# Altium integrated library Components - 25.08.25 - 13.51.IntLib: 1 symbol
Pins are listed as number, name and electrical type; pins without a type are passive.

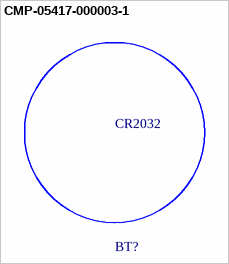
[diagram p0: symbol CMP-05417-000003-1]

## CMP-05417-000003-1
designator BT?, comment CR2032
BATTERY LITHIUM 3V COIN 20MM; Manufacturer: Panasonic; ComponentLink2URL: https://upverter.com/datasheet/5ee6469450a36cf26ddc1e0271adf06b3d83bec7.pdf; Device Class L3: unset; Device Class L1: Passive Components; Temperature Range Low: -30°C; Package: CR2032; Mouser Description: Battery; Lithium High Energy; 3 VoltS; 230 MAH; Coin Cell; ComponentLink2Description: Datasheet; Device Class L2: unset; Manufacturer Part Number: CR2032; Octopart: https://octopart.com/cr2032-panasonic-39385932; Temperature Range High: +60°C; Temperature: -30°C to +60°C; Automotive: No; Category: Batt; Height: 3.2mm
footprint FP-CR2032-MFG